# Altium integrated library Bridge Rectifiers.IntLib: 1 symbol
Pins are listed as number, name and electrical type; pins without a type are passive.

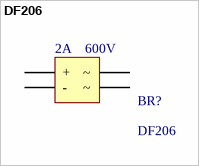
[diagram p0: symbol DF206]

## DF206
designator BR?  Current: 2A  Voltage: 600V
Bridge Rectifier Single Phase Standard 600V Surface Mount DFS; Manufacturer 1: Comchip Technology; Manufacturer 1 PN: DF206ST-G; ComponentLink1Description: Datasheet; ComponentLink1URL: http://www.comchiptech.com/admin/files/product/DF2005S-G%20Thru340691.%20DF210S-G%20RevF.pdf; Digikey PN: 641-1425-1-ND; Mouser PN: 750-DF206ST-G
footprint DF206 (Bridge Rectifier Single Phase Standard 600V Surface Mount DFS)
pins: 1 + (power), 2 - (power), 3 ~ (power), 4 ~ (power)